# Altium integrated library BGAH270-175E.IntLib: 1 symbol
Pins are listed as number, name and electrical type; pins without a type are passive.

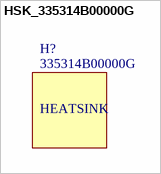
[diagram p0: symbol HSK_335314B00000G]

## HSK_335314B00000G
designator H?, comment 335314B00000G
HSK - Heat sink 335314B00000G 27x27mm; GRAMS Lib Spec: 2.7
text: HEATSINK